# Altium footprint library Switches.PcbLib: 2 footprints
Each footprint in its own frame and in the unit in brackets; x right, y up, seen from the top. Pads: shape width x height; smd on the part's side, far side on the other; paste and mask are expansions set on the pad; w line width, h text height; cw(c..) or ccw(c..) is an arc to the next point about the centre after c.
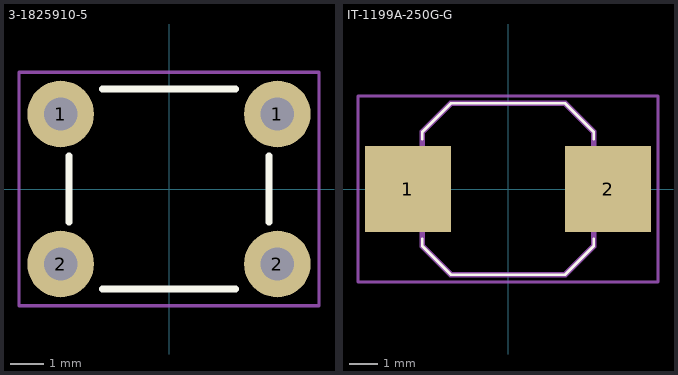
[diagram p0: the footprints below, top view; thin cyan lines are the x and y axes]

## 3-1825910-5 [mm]
pads (4):
  round 2 hole 1: 1(-3.25,2.25) 1(3.25,2.25) 2(-3.25,-2.25) 2(3.25,-2.25)
Top Overlay:
  lines w0.2: -3,-1 -3,1 ; -2,-3 2,-3 ; -2,3 2,3 ; 3,-1 3,1
Border:
  lines w0.1: -4.5,-3.5 4.5,-3.5 4.5,3.5 -4.5,3.5 -4.5,-3.5
3D body "Кнопка тактовая h=5мм.stp": height 7.65, standoff -1, extent -3.95,-3 3.95,3

## IT-1199A-250G-G [mm]
pads (2):
  rect 3x3 smd paste+0 mask+0: 1(-3.5,0) 2(3.5,0)
Top Overlay:
  lines w0.1: -3,-1.75 -3,-2 -2,-3 2,-3 3,-2 3,-1.75 ; -3,1.75 -3,2 -2,3 2,3 3,2 3,1.75
Top Assy:
  lines w0.2: -3,-2 -2,-3 2,-3 3,-2 3,2 2,3 -2,3 -3,2 -3,-2
Border:
  lines w0.1: -5.25,-3.25 -5.25,3.25 5.25,3.25 5.25,-3.25 -5.25,-3.25
3D body "Кнопка тактовая IT-1199A-250G-G.stp": height 5.02, standoff 0, extent -3.3,-3 3.3,3